# Altium schematic symbol library GL3523-OTY30.Schlib: 1 symbol
Pins are listed as number, name and electrical type; pins without a type are passive.

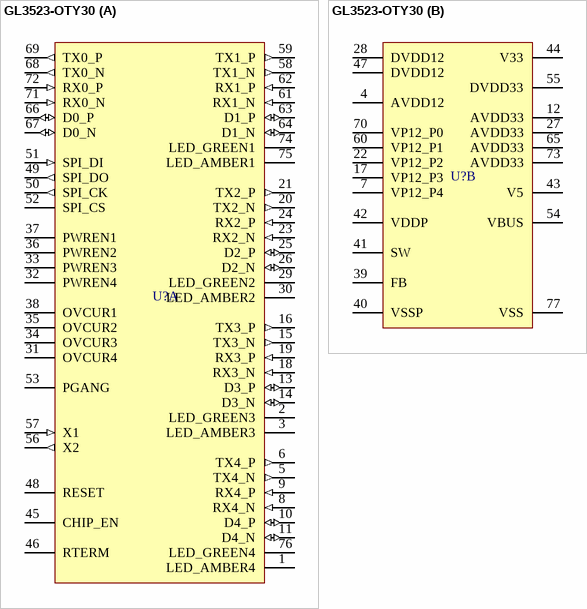
[diagram p0: symbol GL3523-OTY30]

## GL3523-OTY30
designator U?
4-port USB3.1 hub controller
part A pins: 1 LED_AMBER4, 2 LED_GREEN3, 3 LED_AMBER3, 5 TX4_N (out), 6 TX4_P (out), 8 RX4_N (in), 9 RX4_P (in), 10 D4_P (io), 11 D4_N (io), 13 D3_P (io), 14 D3_N (io), 15 TX3_N (out), 16 TX3_P (out), 18 RX3_N (in), 19 RX3_P (in), 20 TX2_N (out), 21 TX2_P (out), 23 RX2_N (in), 24 RX2_P (in), 25 D2_P (io), 26 D2_N (io), 29 LED_GREEN2, 30 LED_AMBER2, 31 OVCUR4, 32 PWREN4, 33 PWREN3, 34 OVCUR3, 35 OVCUR2, 36 PWREN2, 37 PWREN1, 38 OVCUR1, 45 CHIP_EN, 46 RTERM, 48 RESET, 49 SPI_DO (out), 50 SPI_CK (out), 51 SPI_DI (in), 52 SPI_CS, 53 PGANG, 56 X2 (out), 57 X1 (in), 58 TX1_N (out), 59 TX1_P (out), 61 RX1_N (in), 62 RX1_P (in), 63 D1_P (io), 64 D1_N (io), 66 D0_P (io), 67 D0_N (io), 68 TX0_N (out), 69 TX0_P (out), 71 RX0_N (in), 72 RX0_P (in), 74 LED_GREEN1, 75 LED_AMBER1, 76 LED_GREEN4
part B pins: 4 AVDD12 (power), 7 VP12_P4 (power), 12 AVDD33 (power), 17 VP12_P3 (power), 22 VP12_P2 (power), 27 AVDD33 (power), 28 DVDD12 (power), 39 FB, 40 VSSP (power), 41 SW, 42 VDDP (power), 43 V5 (power), 44 V33 (power), 47 DVDD12 (power), 54 VBUS, 55 DVDD33 (power), 60 VP12_P1 (power), 65 AVDD33 (power), 70 VP12_P0 (power), 73 AVDD33 (power), 77 VSS (power)